# Altium integrated library Analog Devices Switches and Multiplexers Analog Switches.IntLib: 575 symbols (part 19 of 23)
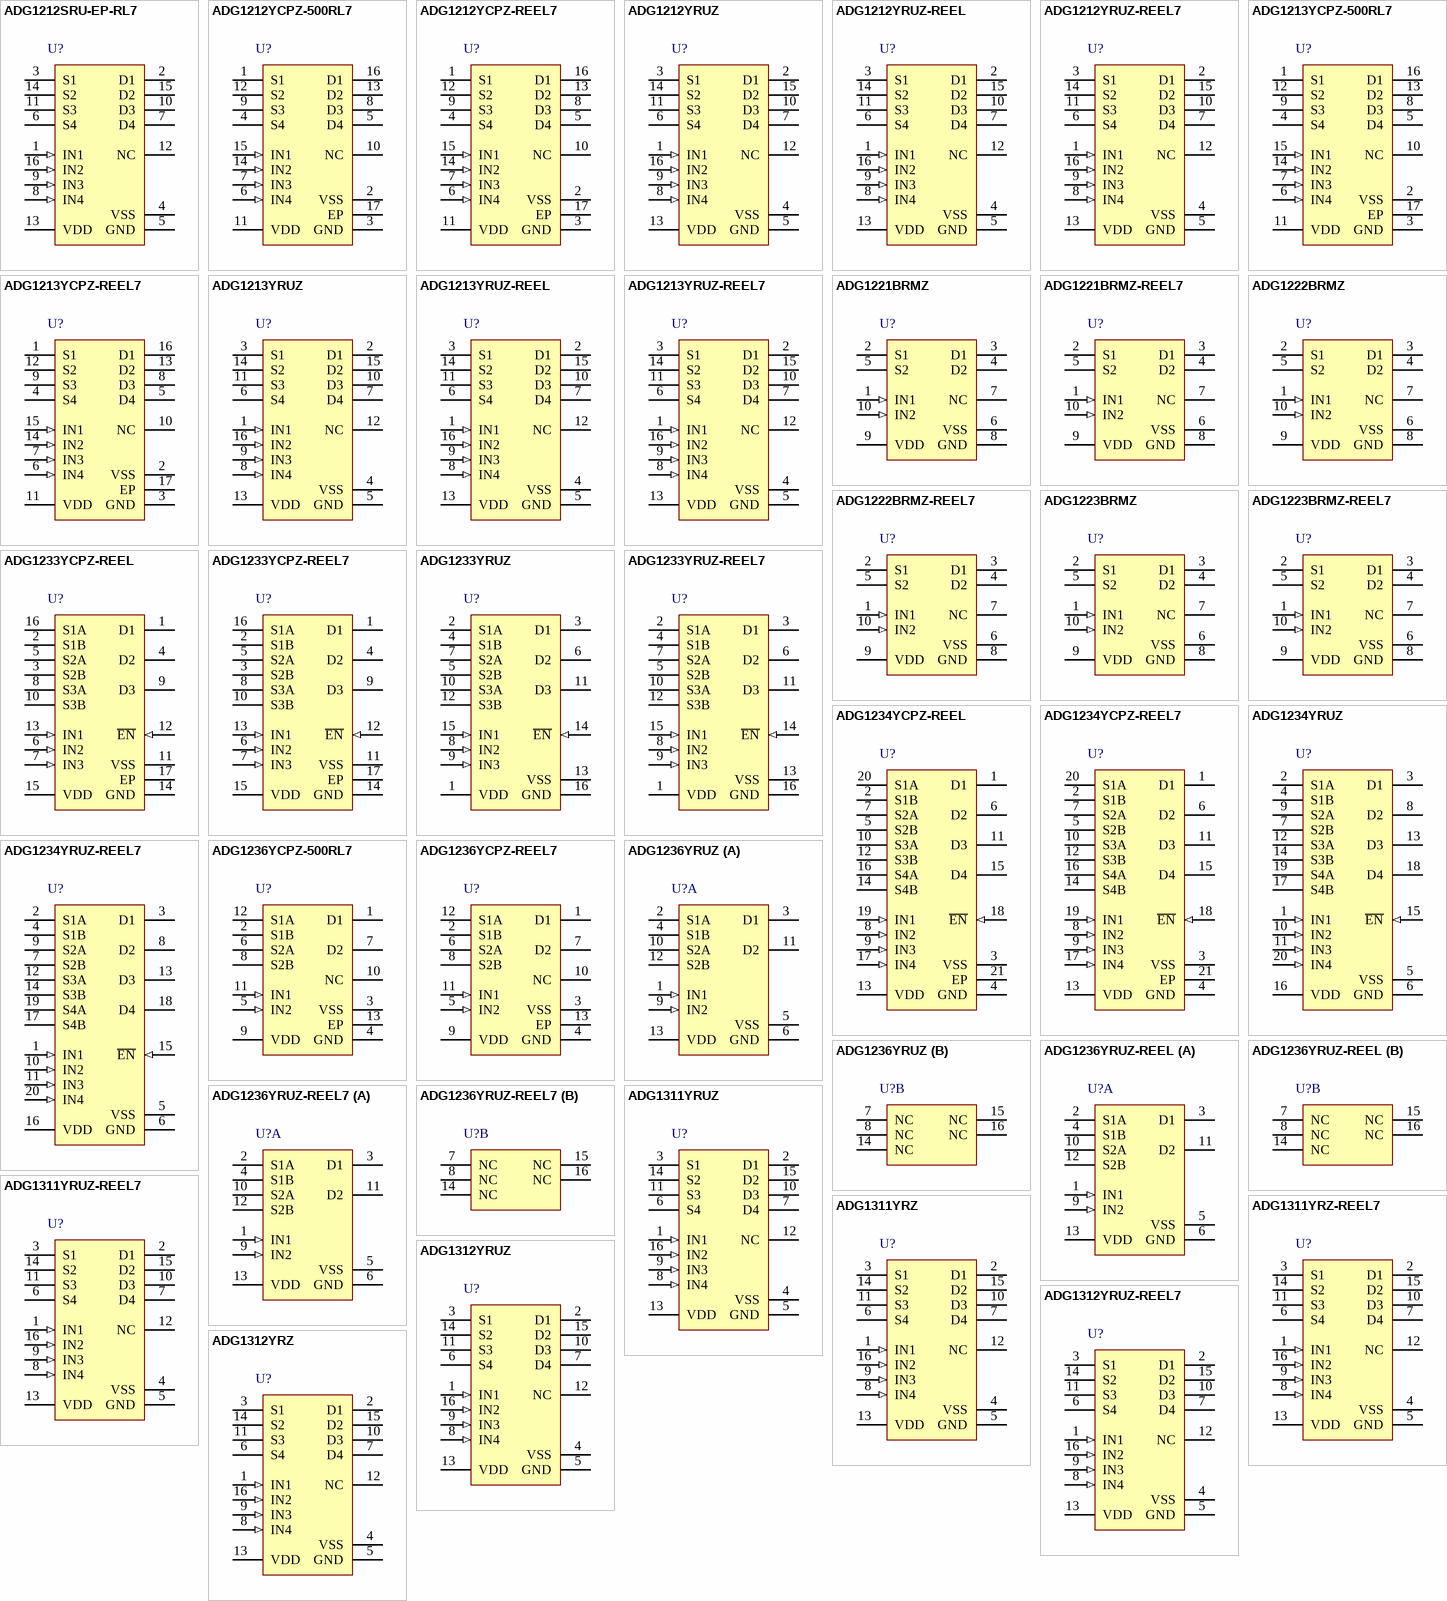
[diagram p33: symbols ADG1212SRU-EP-RL7 to ADG1312YRZ]

## ADG1222BRMZ
designator U?
Low Capacitance, Low Charge Injection, +/-15 V / +12 V iCMOS(R) Dual SPST Switches, 120 Ohm Ron, 10-pin SOP (RM-10), Tube; Manufacturer: Analog Devices; PartNumber: ADG1222BRMZ; # Sw Functions: 2; DatasheetVersion: Rev. A; PackageVersion: Aug-05; PackageReference: RM-10; PackageDescription: 10-Pin Mini Small Outline Package, Body 3 x 3 mm, Pitch 0.5 mm; Supplier 1: Digi-Key; Supplier Part Number 1: ADG1222BRMZ-ND; Supplier 2: Farnell; Supplier Part Number 2: 1390955; Supplier 3: Newark; Supplier Part Number 3: 34M4783; Supplier 4: Mouser; Supplier Part Number 4: 584-ADG1222BRMZ; Configuration: SPST; Packing: Tube; Mounting Technology: Surface Mount; Code_JEDEC: MO-187-BA; ComponentLink1Description: Manufacturer URL; ComponentLink1URL: http://www.analog.com/en/index.html; ComponentLink2Description: Datasheet; ComponentLink2URL: http://www.analog.com/static/imported-files/data_sheets/ADG1221_1222_1223.pdf; ComponentLink3Description: Package Specification; ComponentLink3URL: http://www.analog.com/static/imported-files/packages/PKG_PDF/MSOP%28RM%29/RM_10.pdf
footprint ADI-RM-10_N (SOP, 10-Leads, Body 3x3mm, Pitch 0.5mm, IPC Medium Density)
footprint ADI-RM-10_L (SOP, 10-Leads, Body 3x3mm, Pitch 0.5mm, IPC High Density)
footprint ADI-RM-10_M (SOP, 10-Leads, Body 3x3mm, Pitch 0.5mm, IPC Low Density)
pins: 1 IN1 (in) "Logic Control Input.", 2 S1 "Source Terminal. Can be an input or output.", 3 D1 "Drain Terminal. Can be an input or output.", 4 D2 "Drain Terminal. Can be an input or output.", 5 S2 "Source Terminal. Can be an input or output.", 6 VSS (power) "Most Negative Power Supply Potential.", 7 NC "No Connect.", 8 GND (power) "Ground (0 V) Reference.", 9 VDD (power) "Most Positive Power Supply Potential.", 10 IN2 (in) "Logic Control Input."

## ADG1222BRMZ-REEL7
designator U?
Low Capacitance, Low Charge Injection, +/-15 V / +12 V iCMOS(R) Dual SPST Switches, 120 Ohm Ron, 10-pin SOP (RM-10), Reel; Manufacturer: Analog Devices; PartNumber: ADG1222BRMZ-REEL7; # Sw Functions: 2; DatasheetVersion: Rev. A; PackageVersion: Aug-05; PackageReference: RM-10; PackageDescription: 10-Pin Mini Small Outline Package, Body 3 x 3 mm, Pitch 0.5 mm; Supplier 1: Digi-Key; Supplier Part Number 1: ADG1222BRMZ-REEL7-ND; Supplier 2: Mouser; Supplier Part Number 2: 584-ADG1222BRMZ-R7; Configuration: SPST; Packing: Reel; Mounting Technology: Surface Mount; Code_JEDEC: MO-187-BA; ComponentLink1Description: Manufacturer URL; ComponentLink1URL: http://www.analog.com/en/index.html; ComponentLink2Description: Datasheet; ComponentLink2URL: http://www.analog.com/static/imported-files/data_sheets/ADG1221_1222_1223.pdf; ComponentLink3Description: Package Specification; ComponentLink3URL: http://www.analog.com/static/imported-files/packages/PKG_PDF/MSOP%28RM%29/RM_10.pdf
footprint ADI-RM-10_N (SOP, 10-Leads, Body 3x3mm, Pitch 0.5mm, IPC Medium Density)
footprint ADI-RM-10_L (SOP, 10-Leads, Body 3x3mm, Pitch 0.5mm, IPC High Density)
footprint ADI-RM-10_M (SOP, 10-Leads, Body 3x3mm, Pitch 0.5mm, IPC Low Density)
pins: 1 IN1 (in) "Logic Control Input.", 2 S1 "Source Terminal. Can be an input or output.", 3 D1 "Drain Terminal. Can be an input or output.", 4 D2 "Drain Terminal. Can be an input or output.", 5 S2 "Source Terminal. Can be an input or output.", 6 VSS (power) "Most Negative Power Supply Potential.", 7 NC "No Connect.", 8 GND (power) "Ground (0 V) Reference.", 9 VDD (power) "Most Positive Power Supply Potential.", 10 IN2 (in) "Logic Control Input."

## ADG1223BRMZ
designator U?
Low Capacitance, Low Charge Injection, +/-15 V / +12 V iCMOS(R) Dual SPST Switches, 120 Ohm Ron, 10-pin SOP (RM-10), Tube; Manufacturer: Analog Devices; PartNumber: ADG1223BRMZ; # Sw Functions: 2; DatasheetVersion: Rev. A; PackageVersion: Aug-05; PackageReference: RM-10; PackageDescription: 10-Pin Mini Small Outline Package, Body 3 x 3 mm, Pitch 0.5 mm; Supplier 1: Digi-Key; Supplier Part Number 1: ADG1223BRMZ-ND; Supplier 2: Farnell; Supplier Part Number 2: 1390956; Supplier 3: Newark; Supplier Part Number 3: 34M4785; Supplier 4: Mouser; Supplier Part Number 4: 584-ADG1223BRMZ; Configuration: SPST; Packing: Tube; Mounting Technology: Surface Mount; Code_JEDEC: MO-187-BA; ComponentLink1Description: Manufacturer URL; ComponentLink1URL: http://www.analog.com/en/index.html; ComponentLink2Description: Datasheet; ComponentLink2URL: http://www.analog.com/static/imported-files/data_sheets/ADG1221_1222_1223.pdf; ComponentLink3Description: Package Specification; ComponentLink3URL: http://www.analog.com/static/imported-files/packages/PKG_PDF/MSOP%28RM%29/RM_10.pdf
footprint ADI-RM-10_N (SOP, 10-Leads, Body 3x3mm, Pitch 0.5mm, IPC Medium Density)
footprint ADI-RM-10_L (SOP, 10-Leads, Body 3x3mm, Pitch 0.5mm, IPC High Density)
footprint ADI-RM-10_M (SOP, 10-Leads, Body 3x3mm, Pitch 0.5mm, IPC Low Density)
pins: 1 IN1 (in) "Logic Control Input.", 2 S1 "Source Terminal. Can be an input or output.", 3 D1 "Drain Terminal. Can be an input or output.", 4 D2 "Drain Terminal. Can be an input or output.", 5 S2 "Source Terminal. Can be an input or output.", 6 VSS (power) "Most Negative Power Supply Potential.", 7 NC "No Connect.", 8 GND (power) "Ground (0 V) Reference.", 9 VDD (power) "Most Positive Power Supply Potential.", 10 IN2 (in) "Logic Control Input."

## ADG1223BRMZ-REEL7
designator U?
Low Capacitance, Low Charge Injection, +/-15 V / +12 V iCMOS(R) Dual SPST Switches, 120 Ohm Ron, 10-pin SOP (RM-10), Reel; Manufacturer: Analog Devices; PartNumber: ADG1223BRMZ-REEL7; # Sw Functions: 2; DatasheetVersion: Rev. A; PackageVersion: Aug-05; PackageReference: RM-10; PackageDescription: 10-Pin Mini Small Outline Package, Body 3 x 3 mm, Pitch 0.5 mm; Supplier 1: Digi-Key; Supplier Part Number 1: ADG1223BRMZ-REEL7-ND; Supplier 2: Mouser; Supplier Part Number 2: 584-ADG1223BRMZ-R7; Configuration: SPST; Packing: Reel; Mounting Technology: Surface Mount; Code_JEDEC: MO-187-BA; ComponentLink1Description: Manufacturer URL; ComponentLink1URL: http://www.analog.com/en/index.html; ComponentLink2Description: Datasheet; ComponentLink2URL: http://www.analog.com/static/imported-files/data_sheets/ADG1221_1222_1223.pdf; ComponentLink3Description: Package Specification; ComponentLink3URL: http://www.analog.com/static/imported-files/packages/PKG_PDF/MSOP%28RM%29/RM_10.pdf
footprint ADI-RM-10_N (SOP, 10-Leads, Body 3x3mm, Pitch 0.5mm, IPC Medium Density)
footprint ADI-RM-10_L (SOP, 10-Leads, Body 3x3mm, Pitch 0.5mm, IPC High Density)
footprint ADI-RM-10_M (SOP, 10-Leads, Body 3x3mm, Pitch 0.5mm, IPC Low Density)
pins: 1 IN1 (in) "Logic Control Input.", 2 S1 "Source Terminal. Can be an input or output.", 3 D1 "Drain Terminal. Can be an input or output.", 4 D2 "Drain Terminal. Can be an input or output.", 5 S2 "Source Terminal. Can be an input or output.", 6 VSS (power) "Most Negative Power Supply Potential.", 7 NC "No Connect.", 8 GND (power) "Ground (0 V) Reference.", 9 VDD (power) "Most Positive Power Supply Potential.", 10 IN2 (in) "Logic Control Input."

## ADG1233YCPZ-REEL
designator U?
Low Capacitance, Triple SPDT +/-15 V / 12 V iCMOS(TM) Switches, 120 Ohm Ron, 16-pin CSP (CP-16-4), Reel; Manufacturer: Analog Devices; PartNumber: ADG1233YCPZ-REEL; # Sw Functions: 3; Max Neg Supply: -16.5V; Max Pos Supply: +16.5V; Ron (ohms): 120, 300; t ON: 120ns, 150ns; DatasheetVersion: Rev. B; PackageVersion: 010606-0, 01/2006; PackageReference: CP-16-4; PackageDescription: 16-Pin Lead Frame Chip Scale Package, Body 4 x 4 mm, Pitch 0.65 mm; Supplier 1: Digi-Key; Supplier Part Number 1: ADG1233YCPZ-REEL-ND; Supplier 2: Mouser; Supplier Part Number 2: 584-ADG1233YCPZ-R; Configuration: SPDT; Packing: Reel; Mounting Technology: Surface Mount; Code_JEDEC: MO-220-VGGC; ComponentLink1Description: Manufacturer URL; ComponentLink1URL: http://www.analog.com/en/index.html; ComponentLink2Description: Datasheet; ComponentLink2URL: http://www.analog.com/static/imported-files/data_sheets/ADG1233_1234.pdf; ComponentLink3Description: Package Specification; ComponentLink3URL: http://www.analog.com/static/imported-files/packages/46009454504174339653421710019CP_16_4.pdf
footprint CP-16-4_N (QFN, 16-Leads, Body 4x4mm, Pitch 0.65mm, Thermal Pad 2.1x2.1mm, IPC Medium Density)
footprint CP-16-4_L (QFN, 16-Leads, Body 4x4mm, Pitch 0.65mm, Thermal Pad 2.1x2.1mm, IPC High Density)
footprint CP-16-4_M (QFN, 16-Leads, Body 4x4mm, Pitch 0.65mm, Thermal Pad 2.1x2.1mm, IPC Low Density)
pins: 1 D1, 2 S1B, 3 S2B, 4 D2, 5 S2A, 6 IN2 (in), 7 IN3 (in), 8 S3A, 9 D3, 10 S3B, 11 VSS (power), 12 ~{EN} (in), 13 IN1 (in), 14 GND (power), 15 VDD (power), 16 S1A, 17 EP (power)

## ADG1233YCPZ-REEL7
designator U?
Low Capacitance, Triple SPDT +/-15 V / 12 V iCMOS(TM) Switches, 120 Ohm Ron, 16-pin CSP (CP-16-4), Reel; Manufacturer: Analog Devices; PartNumber: ADG1233YCPZ-REEL7; # Sw Functions: 3; Max Neg Supply: -16.5V; Max Pos Supply: +16.5V; Ron (ohms): 120, 300; t ON: 120ns, 150ns; DatasheetVersion: Rev. B; PackageVersion: 010606-0, 01/2006; PackageReference: CP-16-4; PackageDescription: 16-Pin Lead Frame Chip Scale Package, Body 4 x 4 mm, Pitch 0.65 mm; Supplier 1: Digi-Key; Supplier Part Number 1: ADG1233YCPZ-REEL7TR-ND; Supplier 2: Digi-Key; Supplier Part Number 2: ADG1233YCPZ-REEL7CT-ND; Supplier 3: Digi-Key; Supplier Part Number 3: ADG1233YCPZ-REEL7DKR-ND; Supplier 4: Mouser; Supplier Part Number 4: 584-ADG1233YCPZ-R7; Configuration: SPDT; Packing: Reel; Mounting Technology: Surface Mount; Code_JEDEC: MO-220-VGGC; ComponentLink1Description: Manufacturer URL; ComponentLink1URL: http://www.analog.com/en/index.html; ComponentLink2Description: Datasheet; ComponentLink2URL: http://www.analog.com/static/imported-files/data_sheets/ADG1233_1234.pdf; ComponentLink3Description: Package Specification; ComponentLink3URL: http://www.analog.com/static/imported-files/packages/46009454504174339653421710019CP_16_4.pdf
footprint CP-16-4_N (QFN, 16-Leads, Body 4x4mm, Pitch 0.65mm, Thermal Pad 2.1x2.1mm, IPC Medium Density)
footprint CP-16-4_L (QFN, 16-Leads, Body 4x4mm, Pitch 0.65mm, Thermal Pad 2.1x2.1mm, IPC High Density)
footprint CP-16-4_M (QFN, 16-Leads, Body 4x4mm, Pitch 0.65mm, Thermal Pad 2.1x2.1mm, IPC Low Density)
pins: 1 D1, 2 S1B, 3 S2B, 4 D2, 5 S2A, 6 IN2 (in), 7 IN3 (in), 8 S3A, 9 D3, 10 S3B, 11 VSS (power), 12 ~{EN} (in), 13 IN1 (in), 14 GND (power), 15 VDD (power), 16 S1A, 17 EP (power)

## ADG1233YRUZ
designator U?
Low Capacitance, Triple SPDT +/-15 V / 12 V iCMOS(TM) Switches, 120 Ohm Ron, 16-pin SOP (RU-16), Tube; Manufacturer: Analog Devices; PartNumber: ADG1233YRUZ; # Sw Functions: 3; Max Neg Supply: -16.5V; Max Pos Supply: +16.5V; Ron (ohms): 120, 300; t ON: 120ns, 150ns; DatasheetVersion: Rev. B; PackageVersion: Nov-02; PackageReference: RU-16; PackageDescription: 16-Pin Thin Shrink Small Outline Package, Body 5 x 4.4 mm, Pitch 0.65 mm; Supplier 1: Digi-Key; Supplier Part Number 1: ADG1233YRUZ-ND; Supplier 2: Farnell; Supplier Part Number 2: 1274182; Supplier 3: Newark; Supplier Part Number 3: 19M0660; Supplier 4: Mouser; Supplier Part Number 4: 584-ADG1233YRUZ; Configuration: SPDT; Packing: Tube; Mounting Technology: Surface Mount; Code_JEDEC: MO-153AB; ComponentLink1Description: Manufacturer URL; ComponentLink1URL: http://www.analog.com/en/index.html; ComponentLink2Description: Datasheet; ComponentLink2URL: http://www.analog.com/static/imported-files/data_sheets/ADG1233_1234.pdf; ComponentLink3Description: Package Specification; ComponentLink3URL: http:/www.analog.com/static/imported-files/packages/36244347913743854010197452789RU16.pdf
footprint ADI-RU-16_N (SOP, 16-Leads, Body 5x4.4mm, Pitch 0.65mm, IPC Medium Density)
footprint ADI-RU-16_L (SOP, 16-Leads, Body 5x4.4mm, Pitch 0.65mm, IPC High Density)
footprint ADI-RU-16_M (SOP, 16-Leads, Body 5x4.4mm, Pitch 0.65mm, IPC Low Density)
pins: 1 VDD (power), 2 S1A, 3 D1, 4 S1B, 5 S2B, 6 D2, 7 S2A, 8 IN2 (in), 9 IN3 (in), 10 S3A, 11 D3, 12 S3B, 13 VSS (power), 14 ~{EN} (in), 15 IN1 (in), 16 GND (power)

## ADG1233YRUZ-REEL7
designator U?
Low Capacitance, Triple SPDT +/-15 V / 12 V iCMOS(TM) Switches, 120 Ohm Ron, 16-pin SOP (RU-16), Reel; Manufacturer: Analog Devices; PartNumber: ADG1233YRUZ-REEL7; # Sw Functions: 3; Max Neg Supply: -16.5V; Max Pos Supply: +16.5V; Ron (ohms): 120, 300; t ON: 120ns, 150ns; DatasheetVersion: Rev. B; PackageVersion: Nov-02; PackageReference: RU-16; PackageDescription: 16-Pin Thin Shrink Small Outline Package, Body 5 x 4.4 mm, Pitch 0.65 mm; Supplier 1: Digi-Key; Supplier Part Number 1: ADG1233YRUZ-REEL7-ND; Supplier 2: Mouser; Supplier Part Number 2: 584-ADG1233YRUZ-R7; Configuration: SPDT; Packing: Reel; Mounting Technology: Surface Mount; Code_JEDEC: MO-153AB; ComponentLink1Description: Manufacturer URL; ComponentLink1URL: http://www.analog.com/en/index.html; ComponentLink2Description: Datasheet; ComponentLink2URL: http://www.analog.com/static/imported-files/data_sheets/ADG1233_1234.pdf; ComponentLink3Description: Package Specification; ComponentLink3URL: http:/www.analog.com/static/imported-files/packages/36244347913743854010197452789RU16.pdf
footprint ADI-RU-16_N (SOP, 16-Leads, Body 5x4.4mm, Pitch 0.65mm, IPC Medium Density)
footprint ADI-RU-16_L (SOP, 16-Leads, Body 5x4.4mm, Pitch 0.65mm, IPC High Density)
footprint ADI-RU-16_M (SOP, 16-Leads, Body 5x4.4mm, Pitch 0.65mm, IPC Low Density)
pins: 1 VDD (power), 2 S1A, 3 D1, 4 S1B, 5 S2B, 6 D2, 7 S2A, 8 IN2 (in), 9 IN3 (in), 10 S3A, 11 D3, 12 S3B, 13 VSS (power), 14 ~{EN} (in), 15 IN1 (in), 16 GND (power)

## ADG1234YCPZ-REEL
designator U?
Low Capacitance, Quad SPDT +/-15 V / 12 V ICMOS(TM) Switches, 120 Ohm Ron, 20-pin QFN (CP-20-1), Reel; Manufacturer: Analog Devices; PartNumber: ADG1234YCPZ-REEL; # Sw Functions: 4; Max Neg Supply: -16.5V; Max Pos Supply: +16.5V; Ron (ohms): 120, 300; t ON: 120ns, 150ns; DatasheetVersion: Rev. B; PackageVersion: 012508-B, 01/2008; PackageReference: CP-20-1; PackageDescription: 20-Pin Lead Frame Chip Scale Package, Body 4 x 4 mm, Pitch 0.5 mm; Supplier 1: Digi-Key; Supplier Part Number 1: ADG1234YCPZ-REEL-ND; Supplier 2: Newark; Supplier Part Number 2: 12M7739; Supplier 3: Mouser; Supplier Part Number 3: 584-ADG1234YCPZ-R; Configuration: SPDT; Packing: Reel; Mounting Technology: Surface Mount; Code_JEDEC: MO-220-VGGD-1; ComponentLink1Description: Manufacturer URL; ComponentLink1URL: http://www.analog.com/en/index.html; ComponentLink2Description: Datasheet; ComponentLink2URL: http://www.analog.com/static/imported-files/data_sheets/ADG1233_1234.pdf; ComponentLink3Description: Package Specification; ComponentLink3URL: http://www.analog.com/static/imported-files/packages/PKG_PDF/LFCSP(CP)/CP_20_1.pdf
footprint ADI-CP-20-1_N (QFN, 20-Leads, Body 4x4mm, Pitch 0.5mm, Thermal Pad 2.1x2.1mm, IPC Medium Density)
footprint ADI-CP-20-1_L (QFN, 20-Leads, Body 4x4mm, Pitch 0.5mm, Thermal Pad 2.1x2.1mm, IPC High Density)
footprint ADI-CP-20-1_M (QFN, 20-Leads, Body 4x4mm, Pitch 0.5mm, Thermal Pad 2.1x2.1mm, IPC Low Density)
pins: 1 D1, 2 S1B, 3 VSS (power) "Most negative power supply potential in dual supplies. In  single-supply applications, it can be connected to ground.", 4 GND (power) "Ground (0 V) reference.", 5 S2B, 6 D2, 7 S2A, 8 IN2 (in), 9 IN3 (in), 10 S3A, 11 D3, 12 S3B, 13 VDD (power) "Most positive supply potential.", 14 S4B, 15 D4, 16 S4A, 17 IN4 (in), 18 ~{EN} (in), 19 IN1 (in), 20 S1A, 21 EP (power) "Exposed Pad Tied to Substrate, VSS"

## ADG1234YCPZ-REEL7
designator U?
Low Capacitance, Quad SPDT +/-15 V / 12 V iCMOS(TM) Switches, 120 Ohm Ron, 20-pin SOP (CP-20-1), Reel; Manufacturer: Analog Devices; PartNumber: ADG1234YCPZ-REEL7; # Sw Functions: 4; Max Neg Supply: -16.5V; Max Pos Supply: +16.5V; Ron (ohms): 120, 300; t ON: 120ns, 150ns; DatasheetVersion: Rev. B; PackageVersion: 012508-B, 01/2008; PackageReference: CP-20-1; PackageDescription: 20-Pin Lead Frame Chip Scale Package, Body 4 x 4 mm, Pitch 0.5 mm; Supplier 1: Digi-Key; Supplier Part Number 1: ADG1234YCPZ-REEL7TR-ND; Supplier 2: Digi-Key; Supplier Part Number 2: ADG1234YCPZ-REEL7CT-ND; Supplier 3: Digi-Key; Supplier Part Number 3: ADG1234YCPZ-REEL7DKR-ND; Supplier 4: Newark; Supplier Part Number 4: 12M7740; Supplier 5: Mouser; Supplier Part Number 5: 584-ADG1234YCPZ-R7; Configuration: SPDT; Packing: Reel; Mounting Technology: Surface Mount; Code_JEDEC: MO-220-VGGD-1; ComponentLink1Description: Manufacturer URL; ComponentLink1URL: http://www.analog.com/en/index.html; ComponentLink2Description: Datasheet; ComponentLink2URL: http://www.analog.com/static/imported-files/data_sheets/ADG1233_1234.pdf; ComponentLink3Description: Package Specification; ComponentLink3URL: http://www.analog.com/static/imported-files/packages/PKG_PDF/LFCSP(CP)/CP_20_1.pdf
footprint ADI-CP-20-1_N (QFN, 20-Leads, Body 4x4mm, Pitch 0.5mm, Thermal Pad 2.1x2.1mm, IPC Medium Density)
footprint ADI-CP-20-1_L (QFN, 20-Leads, Body 4x4mm, Pitch 0.5mm, Thermal Pad 2.1x2.1mm, IPC High Density)
footprint ADI-CP-20-1_M (QFN, 20-Leads, Body 4x4mm, Pitch 0.5mm, Thermal Pad 2.1x2.1mm, IPC Low Density)
pins: 1 D1, 2 S1B, 3 VSS (power) "Most negative power supply potential in dual supplies. In  single-supply applications, it can be connected to ground.", 4 GND (power) "Ground (0 V) reference.", 5 S2B, 6 D2, 7 S2A, 8 IN2 (in), 9 IN3 (in), 10 S3A, 11 D3, 12 S3B, 13 VDD (power) "Most positive supply potential.", 14 S4B, 15 D4, 16 S4A, 17 IN4 (in), 18 ~{EN} (in), 19 IN1 (in), 20 S1A, 21 EP (power) "Exposed Pad Tied to Substrate, VSS"

## ADG1234YRUZ
designator U?
Low Capacitance, Quad SPDT +/-15 V / 12 V ICMOS(TM) Switches, 120 Ohm Ron, 20-pin SOP (RU-20), Reel; Manufacturer: Analog Devices; PartNumber: ADG1234YRUZ; # Sw Functions: 4; Max Neg Supply: -16.5V; Max Pos Supply: +16.5V; Packing: Tube; Ron (ohms): 120, 300; t ON: 120ns, 150ns; DatasheetVersion: Rev. B; PackageVersion: Jan-03; PackageReference: RU-20; PackageDescription: 20-Pin Thin Shrink Small Outline Package, Body 6.5 x 4.4 mm, Pitch 0.65 mm; Supplier 1: Digi-Key; Supplier Part Number 1: ADG1234YRUZ-ND; Supplier 2: Farnell; Supplier Part Number 2: 1274180; Supplier 3: Newark; Supplier Part Number 3: 31M3763; Supplier 4: Newark; Supplier Part Number 4: 19M0661; Supplier 5: Mouser; Supplier Part Number 5: 584-ADG1234YRUZ; Configuration: SPDT; Mounting Technology: Surface Mount; Code_JEDEC: MO-153AC; ComponentLink1Description: Manufacturer URL; ComponentLink1URL: http://www.analog.com/en/index.html; ComponentLink2Description: Datasheet; ComponentLink2URL: http://www.analog.com/static/imported-files/data_sheets/ADG1233_1234.pdf; ComponentLink3Description: Package Specification; ComponentLink3URL: http://www.analog.com/static/imported-files/packages/364515793657813558433715854054607941441RU20.pdf
footprint ADI-RU-20_N (SOP, 20-Leads, Body 6.5x4.4mm, Pitch 0.65mm, IPC Medium Density)
footprint ADI-RU-20_L (SOP, 20-Leads, Body 6.5x4.4mm, Pitch 0.65mm, IPC High Density)
footprint ADI-RU-20_M (SOP, 20-Leads, Body 6.5x4.4mm, Pitch 0.65mm, IPC Low Density)
pins: 1 IN1 (in), 2 S1A, 3 D1, 4 S1B, 5 VSS (power), 6 GND (power), 7 S2B, 8 D2, 9 S2A, 10 IN2 (in), 11 IN3 (in), 12 S3A, 13 D3, 14 S3B, 15 ~{EN} (in), 16 VDD (power), 17 S4B, 18 D4, 19 S4A, 20 IN4 (in)

## ADG1234YRUZ-REEL7
designator U?
Low Capacitance, Quad SPDT +/-15 V / 12 V ICMOS(TM) Switches, 120 Ohm Ron, 20-pin SOP (RU-20), Reel; Manufacturer: Analog Devices; PartNumber: ADG1234YRUZ-REEL7; # Sw Functions: 4; Max Neg Supply: -16.5V; Max Pos Supply: +16.5V; Ron (ohms): 120, 300; t ON: 120ns, 150ns; DatasheetVersion: Rev. B; PackageVersion: Jan-03; PackageReference: RU-20; PackageDescription: 20-Pin Thin Shrink Small Outline Package, Body 6.5 x 4.4 mm, Pitch 0.65 mm; Supplier 1: Digi-Key; Supplier Part Number 1: ADG1234YRUZ-REEL7-ND; Supplier 2: Mouser; Supplier Part Number 2: 584-ADG1234YRUZ-R7; Configuration: SPDT; Packing: Reel; Mounting Technology: Surface Mount; Code_JEDEC: MO-153AC; ComponentLink1Description: Manufacturer URL; ComponentLink1URL: http://www.analog.com/en/index.html; ComponentLink2Description: Datasheet; ComponentLink2URL: http://www.analog.com/static/imported-files/data_sheets/ADG1233_1234.pdf; ComponentLink3Description: Package Specification; ComponentLink3URL: http://www.analog.com/static/imported-files/packages/364515793657813558433715854054607941441RU20.pdf
footprint ADI-RU-20_N (SOP, 20-Leads, Body 6.5x4.4mm, Pitch 0.65mm, IPC Medium Density)
footprint ADI-RU-20_L (SOP, 20-Leads, Body 6.5x4.4mm, Pitch 0.65mm, IPC High Density)
footprint ADI-RU-20_M (SOP, 20-Leads, Body 6.5x4.4mm, Pitch 0.65mm, IPC Low Density)
pins: 1 IN1 (in), 2 S1A, 3 D1, 4 S1B, 5 VSS (power), 6 GND (power), 7 S2B, 8 D2, 9 S2A, 10 IN2 (in), 11 IN3 (in), 12 S3A, 13 D3, 14 S3B, 15 ~{EN} (in), 16 VDD (power), 17 S4B, 18 D4, 19 S4A, 20 IN4 (in)

## ADG1236YCPZ-500RL7
designator U?
Low Capacitance, Low Charge Injection, +/-15 V / 12 V iCMOS(TM), Dual SPDT Switches, 120 Ohm Ron, 12-pin QFN (CP-12-1), Reel; Manufacturer: Analog Devices; PartNumber: ADG1236YCPZ-500RL7; # Sw Functions: 2; Max Neg Supply: -16.5V; Max Pos Supply: +16.5V; Ron (ohms): 120, 300; DatasheetVersion: Rev. 0; PackageReference: CP-12-1; PackageDescription: 12-Pin Lead Frame Chip Scale Package, Body 3 x 3 mm, Pitch 0.5 mm; Supplier 1: Digi-Key; Supplier Part Number 1: ADG1236YCPZ-500RL7TR-ND; Supplier 2: Digi-Key; Supplier Part Number 2: ADG1236YCPZ-500RL7CT-ND; Supplier 3: Digi-Key; Supplier Part Number 3: ADG1236YCPZ-500RL7DKR-ND; Supplier 4: Newark; Supplier Part Number 4: 12M7744; Supplier 5: Mouser; Supplier Part Number 5: 584-ADG1236YCPZ500R7; Configuration: SPDT; Packing: Reel; Mounting Technology: Surface Mount; Code_JEDEC: MO-220-VEED-1; ComponentLink1Description: Manufacturer URL; ComponentLink1URL: http://www.analog.com/en/index.html; ComponentLink2Description: Datasheet; ComponentLink2URL: http://www.analog.com/static/imported-files/data_sheets/ADG1236.pdf; ComponentLink3Description: Package Specification; ComponentLink3URL: http://www.analog.com/static/imported-files/packages/CP_12_1.pdf
footprint ADI-CP-12-1_N (QFN, 12-Leads, Body 3x3mm, Pitch 0.5mm, Thermal Pad 1.3x1.3mm, IPC Medium Density)
footprint ADI-CP-12-1_L (QFN, 12-Leads, Body 3x3mm, Pitch 0.5mm, Thermal Pad 1.3x1.3mm, IPC High Density)
footprint ADI-CP-12-1_M (QFN, 12-Leads, Body 3x3mm, Pitch 0.5mm, Thermal Pad 1.3x1.3mm, IPC Low Density)
pins: 1 D1 "Drain Terminal. Can be an input or output.", 2 S1B "Source Terminal. Can be an input or output.", 3 VSS (power) "Most Negative Power Supply Potential.", 4 GND (power) "Ground (0 V) Reference.", 5 IN2 (in) "Logic Control Input", 6 S2A "Source Terminal. Can be an input or output.", 7 D2 "Drain Terminal. Can be an input or output.", 8 S2B "Source Terminal. Can be an input or output.", 9 VDD (power) "Most Positive Power Supply Potential.", 10 NC "No Connect.", 11 IN1 (in) "Logic Control Input", 12 S1A "Source Terminal. Can be an input or output.", 13 EP (power) "EXPOSED PAD TIED TO SUBSTRATE, VSS."

## ADG1236YCPZ-REEL7
designator U?
Low Capacitance, Low Charge Injection, +/-15 V / 12 V iCMOS(TM), Dual SPDT Switches, 120 Ohm Ron, 12-pin QFN (CP-12-1), Reel; Manufacturer: Analog Devices; PartNumber: ADG1236YCPZ-REEL7; # Sw Functions: 2; Max Neg Supply: -16.5V; Max Pos Supply: +16.5V; Ron (ohms): 120, 300; DatasheetVersion: Rev. 0; PackageReference: CP-12-1; PackageDescription: 12-Pin Lead Frame Chip Scale Package, Body 3 x 3 mm, Pitch 0.5 mm; Supplier 1: Digi-Key; Supplier Part Number 1: ADG1236YCPZ-REEL7TR-ND; Supplier 2: Digi-Key; Supplier Part Number 2: ADG1236YCPZ-REEL7CT-ND; Supplier 3: Digi-Key; Supplier Part Number 3: ADG1236YCPZ-REEL7DKR-ND; Supplier 4: Newark; Supplier Part Number 4: 12M7743; Supplier 5: Mouser; Supplier Part Number 5: 584-ADG1236YCPZ-R7; Configuration: SPDT; Packing: Reel; Mounting Technology: Surface Mount; Code_JEDEC: MO-220-VEED-1; ComponentLink1Description: Manufacturer URL; ComponentLink1URL: http://www.analog.com/en/index.html; ComponentLink2Description: Datasheet; ComponentLink2URL: http://www.analog.com/static/imported-files/data_sheets/ADG1236.pdf; ComponentLink3Description: Package Specification; ComponentLink3URL: http://www.analog.com/static/imported-files/packages/CP_12_1.pdf
footprint ADI-CP-12-1_N (QFN, 12-Leads, Body 3x3mm, Pitch 0.5mm, Thermal Pad 1.3x1.3mm, IPC Medium Density)
footprint ADI-CP-12-1_L (QFN, 12-Leads, Body 3x3mm, Pitch 0.5mm, Thermal Pad 1.3x1.3mm, IPC High Density)
footprint ADI-CP-12-1_M (QFN, 12-Leads, Body 3x3mm, Pitch 0.5mm, Thermal Pad 1.3x1.3mm, IPC Low Density)
pins: 1 D1 "Drain Terminal. Can be an input or output.", 2 S1B "Source Terminal. Can be an input or output.", 3 VSS (power) "Most Negative Power Supply Potential.", 4 GND (power) "Ground (0 V) Reference.", 5 IN2 (in) "Logic Control Input", 6 S2A "Source Terminal. Can be an input or output.", 7 D2 "Drain Terminal. Can be an input or output.", 8 S2B "Source Terminal. Can be an input or output.", 9 VDD (power) "Most Positive Power Supply Potential.", 10 NC "No Connect.", 11 IN1 (in) "Logic Control Input", 12 S1A "Source Terminal. Can be an input or output.", 13 EP (power) "EXPOSED PAD TIED TO SUBSTRATE, VSS."

## ADG1236YRUZ
designator U?
Low Capacitance, Low Charge Injection, +/-15 V / 12 V iCMOS(TM), Dual SPDT Switches, 120 Ohm Ron, 16-pin SOP (RU-16), Tube; Manufacturer: Analog Devices; PartNumber: ADG1236YRUZ; # Sw Functions: 2; Max Neg Supply: -16.5V; Max Pos Supply: +16.5V; Ron (ohms): 120, 300; DatasheetVersion: Rev. 0; PackageVersion: Nov-02; PackageReference: RU-16; PackageDescription: 16-Pin Thin Shrink Small Outline Package, Body 5 x 4.4 mm, Pitch 0.65 mm; Supplier 1: Digi-Key; Supplier Part Number 1: ADG1236YRUZ-ND; Supplier 2: Farnell; Supplier Part Number 2: 1117868; Supplier 3: Newark; Supplier Part Number 3: 19M0662; Supplier 4: Mouser; Supplier Part Number 4: 584-ADG1236YRUZ; Configuration: SPDT; Packing: Tube; Mounting Technology: Surface Mount; Code_JEDEC: MO-153AB; ComponentLink1Description: Manufacturer URL; ComponentLink1URL: http://www.analog.com/en/index.html; ComponentLink2Description: Datasheet; ComponentLink2URL: http://www.analog.com/static/imported-files/data_sheets/ADG1236.pdf; ComponentLink3Description: Package Specification; ComponentLink3URL: http:/www.analog.com/static/imported-files/packages/36244347913743854010197452789RU16.pdf
footprint ADI-RU-16_N (SOP, 16-Leads, Body 5x4.4mm, Pitch 0.65mm, IPC Medium Density)
footprint ADI-RU-16_L (SOP, 16-Leads, Body 5x4.4mm, Pitch 0.65mm, IPC High Density)
footprint ADI-RU-16_M (SOP, 16-Leads, Body 5x4.4mm, Pitch 0.65mm, IPC Low Density)
part A pins: 1 IN1 (in) "Logic Control Input.", 2 S1A "Source Terminal. Can be an input or output", 3 D1 "Drain Terminal. Can be an input or output", 4 S1B "Source Terminal. Can be an input or output", 5 VSS (power) "Most Negative Power Supply Potential.", 6 GND (power) "Ground (0 V) Reference.", 9 IN2 (in) "Logic Control Input.", 10 S2A "Source Terminal. Can be an input or output", 11 D2 "Drain Terminal. Can be an input or output", 12 S2B "Source Terminal. Can be an input or output", 13 VDD (power) "Most Positive Power Supply Potential."
part B pins: 7 NC "No Connect.", 8 NC "No Connect.", 14 NC "No Connect.", 15 NC "No Connect.", 16 NC "No Connect."

## ADG1236YRUZ-REEL
designator U?
Low Capacitance, Low Charge Injection, +/-15 V / 12 V iCMOS(TM), Dual SPDT Switches, 120 Ohm Ron, 16-pin SOP (RU-16), Reel; Manufacturer: Analog Devices; PartNumber: ADG1236YRUZ-REEL; # Sw Functions: 2; Max Neg Supply: -16.5V; Max Pos Supply: +16.5V; Ron (ohms): 120, 300; DatasheetVersion: Rev. 0; PackageVersion: Nov-02; PackageReference: RU-16; PackageDescription: 16-Pin Thin Shrink Small Outline Package, Body 5 x 4.4 mm, Pitch 0.65 mm; Supplier 1: Digi-Key; Supplier Part Number 1: ADG1236YRUZ-REEL-ND; Supplier 2: Newark; Supplier Part Number 2: 12M7745; Supplier 3: Mouser; Supplier Part Number 3: 584-ADG1236YRUZ-R; Configuration: SPDT; Packing: Reel; Mounting Technology: Surface Mount; Code_JEDEC: MO-153AB; ComponentLink1Description: Manufacturer URL; ComponentLink1URL: http://www.analog.com/en/index.html; ComponentLink2Description: Datasheet; ComponentLink2URL: http://www.analog.com/static/imported-files/data_sheets/ADG1236.pdf; ComponentLink3Description: Package Specification; ComponentLink3URL: http:/www.analog.com/static/imported-files/packages/36244347913743854010197452789RU16.pdf
footprint ADI-RU-16_N (SOP, 16-Leads, Body 5x4.4mm, Pitch 0.65mm, IPC Medium Density)
footprint ADI-RU-16_L (SOP, 16-Leads, Body 5x4.4mm, Pitch 0.65mm, IPC High Density)
footprint ADI-RU-16_M (SOP, 16-Leads, Body 5x4.4mm, Pitch 0.65mm, IPC Low Density)
part A pins: 1 IN1 (in) "Logic Control Input.", 2 S1A "Source Terminal. Can be an input or output", 3 D1 "Drain Terminal. Can be an input or output", 4 S1B "Source Terminal. Can be an input or output", 5 VSS (power) "Most Negative Power Supply Potential.", 6 GND (power) "Ground (0 V) Reference.", 9 IN2 (in) "Logic Control Input.", 10 S2A "Source Terminal. Can be an input or output", 11 D2 "Drain Terminal. Can be an input or output", 12 S2B "Source Terminal. Can be an input or output", 13 VDD (power) "Most Positive Power Supply Potential."
part B pins: 7 NC "No Connect.", 8 NC "No Connect.", 14 NC "No Connect.", 15 NC "No Connect.", 16 NC "No Connect."

## ADG1236YRUZ-REEL7
designator U?
Low Capacitance, Low Charge Injection, +/-15 V / 12 V iCMOS(TM), Dual SPDT Switches, 120 Ohm Ron, 16-pin SOP (RU-16), Reel; Manufacturer: Analog Devices; PartNumber: ADG1236YRUZ-REEL7; # Sw Functions: 2; Max Neg Supply: -16.5V; Max Pos Supply: +16.5V; Ron (ohms): 120, 300; DatasheetVersion: Rev. 0; PackageVersion: Nov-02; PackageReference: RU-16; PackageDescription: 16-Pin Thin Shrink Small Outline Package, Body 5 x 4.4 mm, Pitch 0.65 mm; Supplier 1: Digi-Key; Supplier Part Number 1: ADG1236YRUZ-REEL7-ND; Supplier 2: Mouser; Supplier Part Number 2: 584-ADG1236YRUZ-R7; Configuration: SPDT; Packing: Reel; Mounting Technology: Surface Mount; Code_JEDEC: MO-153AB; ComponentLink1Description: Manufacturer URL; ComponentLink1URL: http://www.analog.com/en/index.html; ComponentLink2Description: Datasheet; ComponentLink2URL: http://www.analog.com/static/imported-files/data_sheets/ADG1236.pdf; ComponentLink3Description: Package Specification; ComponentLink3URL: http:/www.analog.com/static/imported-files/packages/36244347913743854010197452789RU16.pdf
footprint ADI-RU-16_N (SOP, 16-Leads, Body 5x4.4mm, Pitch 0.65mm, IPC Medium Density)
footprint ADI-RU-16_L (SOP, 16-Leads, Body 5x4.4mm, Pitch 0.65mm, IPC High Density)
footprint ADI-RU-16_M (SOP, 16-Leads, Body 5x4.4mm, Pitch 0.65mm, IPC Low Density)
part A pins: 1 IN1 (in) "Logic Control Input.", 2 S1A "Source Terminal. Can be an input or output", 3 D1 "Drain Terminal. Can be an input or output", 4 S1B "Source Terminal. Can be an input or output", 5 VSS (power) "Most Negative Power Supply Potential.", 6 GND (power) "Ground (0 V) Reference.", 9 IN2 (in) "Logic Control Input.", 10 S2A "Source Terminal. Can be an input or output", 11 D2 "Drain Terminal. Can be an input or output", 12 S2B "Source Terminal. Can be an input or output", 13 VDD (power) "Most Positive Power Supply Potential."
part B pins: 7 NC "No Connect.", 8 NC "No Connect.", 14 NC "No Connect.", 15 NC "No Connect.", 16 NC "No Connect."

## ADG1311YRUZ
designator U?
Quad SPST +/-15 V / 12 V Switches, 130 Ohm Ron, 16-pin SOP (RU-16), Tube; Manufacturer: Analog Devices; PartNumber: ADG1311YRUZ; # Sw Functions: 4; Max Neg Supply: -16.5V; Max Pos Supply: +16.5V; Ron (ohms): 130, 325; t ON: 105ns, 120ns; DatasheetVersion: Rev. A; PackageVersion: Nov-02; PackageReference: RU-16; PackageDescription: 16-Pin Thin Shrink Small Outline Package, Body 5 x 4.4 mm, Pitch 0.65 mm; Supplier 1: Digi-Key; Supplier Part Number 1: ADG1311YRUZ-ND; Supplier 2: Farnell; Supplier Part Number 2: 1274177; Supplier 3: Newark; Supplier Part Number 3: 31M3767; Supplier 4: Newark; Supplier Part Number 4: 19M0665; Supplier 5: Mouser; Supplier Part Number 5: 584-ADG1311YRUZ; Configuration: SPST; Packing: Tube; Mounting Technology: Surface Mount; Code_JEDEC: MO-153AB; ComponentLink1Description: Manufacturer URL; ComponentLink1URL: http://www.analog.com/en/index.html; ComponentLink2Description: Datasheet; ComponentLink2URL: http://www.analog.com/static/imported-files/data_sheets/ADG1311_1312_1313.pdf; ComponentLink3Description: Package Specification; ComponentLink3URL: http:/www.analog.com/static/imported-files/packages/36244347913743854010197452789RU16.pdf
footprint ADI-RU-16_N (SOP, 16-Leads, Body 5x4.4mm, Pitch 0.65mm, IPC Medium Density)
footprint ADI-RU-16_L (SOP, 16-Leads, Body 5x4.4mm, Pitch 0.65mm, IPC High Density)
footprint ADI-RU-16_M (SOP, 16-Leads, Body 5x4.4mm, Pitch 0.65mm, IPC Low Density)
pins: 1 IN1 (in) "Logic Control Input.", 2 D1 "Drain Terminal. Can be an input or output.", 3 S1 "Source Terminal. Can be an input or output.", 4 VSS (power) "Most Negative Power Supply Potential.", 5 GND (power) "Ground (0 V) Reference.", 6 S4 "Source Terminal. Can be an input or output.", 7 D4 "Drain Terminal. Can be an input or output.", 8 IN4 (in) "Logic Control Input.", 9 IN3 (in) "Logic Control Input.", 10 D3 "Drain Terminal. Can be an input or output.", 11 S3 "Source Terminal. Can be an input or output.", 12 NC "No Connection.", 13 VDD (power) "Most Positive Power Supply Potential.", 14 S2 "Source Terminal. Can be an input or output.", 15 D2 "Drain Terminal. Can be an input or output.", 16 IN2 (in) "Logic Control Input."

## ADG1311YRUZ-REEL7
designator U?
Quad SPST +/-15 V / 12 V Switches, 130 Ohm Ron, 16-pin SOP (RU-16), Reel; Manufacturer: Analog Devices; PartNumber: ADG1311YRUZ-REEL7; # Sw Functions: 4; Max Neg Supply: -16.5V; Max Pos Supply: +16.5V; Ron (ohms): 130, 325; t ON: 105ns, 120ns; DatasheetVersion: Rev. A; PackageVersion: Nov-02; PackageReference: RU-16; PackageDescription: 16-Pin Thin Shrink Small Outline Package, Body 5 x 4.4 mm, Pitch 0.65 mm; Supplier 1: Digi-Key; Supplier Part Number 1: ADG1311YRUZ-REEL7-ND; Supplier 2: Mouser; Supplier Part Number 2: 584-ADG1311YRUZ-R7; Configuration: SPST; Packing: Reel; Mounting Technology: Surface Mount; Code_JEDEC: MO-153AB; ComponentLink1Description: Manufacturer URL; ComponentLink1URL: http://www.analog.com/en/index.html; ComponentLink2Description: Datasheet; ComponentLink2URL: http://www.analog.com/static/imported-files/data_sheets/ADG1311_1312_1313.pdf; ComponentLink3Description: Package Specification; ComponentLink3URL: http:/www.analog.com/static/imported-files/packages/36244347913743854010197452789RU16.pdf
footprint ADI-RU-16_N (SOP, 16-Leads, Body 5x4.4mm, Pitch 0.65mm, IPC Medium Density)
footprint ADI-RU-16_L (SOP, 16-Leads, Body 5x4.4mm, Pitch 0.65mm, IPC High Density)
footprint ADI-RU-16_M (SOP, 16-Leads, Body 5x4.4mm, Pitch 0.65mm, IPC Low Density)
pins: 1 IN1 (in) "Logic Control Input.", 2 D1 "Drain Terminal. Can be an input or output.", 3 S1 "Source Terminal. Can be an input or output.", 4 VSS (power) "Most Negative Power Supply Potential.", 5 GND (power) "Ground (0 V) Reference.", 6 S4 "Source Terminal. Can be an input or output.", 7 D4 "Drain Terminal. Can be an input or output.", 8 IN4 (in) "Logic Control Input.", 9 IN3 (in) "Logic Control Input.", 10 D3 "Drain Terminal. Can be an input or output.", 11 S3 "Source Terminal. Can be an input or output.", 12 NC "No Connection.", 13 VDD (power) "Most Positive Power Supply Potential.", 14 S2 "Source Terminal. Can be an input or output.", 15 D2 "Drain Terminal. Can be an input or output.", 16 IN2 (in) "Logic Control Input."

## ADG1311YRZ
designator U?
Quad SPST +/-15 V / 12 V Switches, 130 Ohm Ron, 16-pin SOIC (R-16), Tube; Manufacturer: Analog Devices; PartNumber: ADG1311YRZ; # Sw Functions: 4; Max Neg Supply: -16.5V; Max Pos Supply: +16.5V; Ron (ohms): 130, 325; t ON: 105ns, 120ns; DatasheetVersion: Rev. A; PackageVersion: 060606-A, 06/2006; PackageReference: R-16; PackageDescription: 16-Pin Standard Small Outline Package, Body 9.9 x 3.9 mm, Pitch 1.27 mm; Supplier 1: Digi-Key; Supplier Part Number 1: ADG1311YRZ-ND; Supplier 2: Newark; Supplier Part Number 2: 50M0773; Supplier 3: Mouser; Supplier Part Number 3: 584-ADG1311YRZ; Configuration: SPST; Packing: Tube; Mounting Technology: Surface Mount; Code_JEDEC: MS-012-AC; ComponentLink1Description: Manufacturer URL; ComponentLink1URL: http://www.analog.com/en/index.html; ComponentLink2Description: Datasheet; ComponentLink2URL: http://www.analog.com/static/imported-files/data_sheets/ADG1311_1312_1313.pdf; ComponentLink3Description: Package Specification; ComponentLink3URL: http://www.analog.com/static/imported-files/packages/PKG_PDF/SOIC_Narrow%20(R)/R_16.pdf
footprint ADI-R-16_N (SOIC, 16-Leads, Body 9.9x3.9mm, Pitch 1.27mm, IPC Medium Density)
footprint ADI-R-16_L (SOIC, 16-Leads, Body 9.9x3.9mm, Pitch 1.27mm, IPC High Density)
footprint ADI-R-16_M (SOIC, 16-Leads, Body 9.9x3.9mm, Pitch 1.27mm, IPC Low Density)
pins: 1 IN1 (in) "Logic Control Input.", 2 D1 "Drain Terminal. Can be an input or output.", 3 S1 "Source Terminal. Can be an input or output.", 4 VSS (power) "Most Negative Power Supply Potential.", 5 GND (power) "Ground (0 V) Reference.", 6 S4 "Source Terminal. Can be an input or output.", 7 D4 "Drain Terminal. Can be an input or output.", 8 IN4 (in) "Logic Control Input.", 9 IN3 (in) "Logic Control Input.", 10 D3 "Drain Terminal. Can be an input or output.", 11 S3 "Source Terminal. Can be an input or output.", 12 NC "No Connection.", 13 VDD (power) "Most Positive Power Supply Potential.", 14 S2 "Source Terminal. Can be an input or output.", 15 D2 "Drain Terminal. Can be an input or output.", 16 IN2 (in) "Logic Control Input."

## ADG1311YRZ-REEL7
designator U?
Quad SPST +/-15 V / 12 V Switches, 130 Ohm Ron, 16-pin SOIC (R-16), Reel; Manufacturer: Analog Devices; PartNumber: ADG1311YRZ-REEL7; # Sw Functions: 4; Max Neg Supply: -16.5V; Max Pos Supply: +16.5V; Ron (ohms): 130, 325; t ON: 105ns, 120ns; DatasheetVersion: Rev. A; PackageVersion: 060606-A, 06/2006; PackageReference: R-16; PackageDescription: 16-Pin Standard Small Outline Package, Body 9.9 x 3.9 mm, Pitch 1.27 mm; Supplier 1: Digi-Key; Supplier Part Number 1: ADG1311YRZ-REEL7-ND; Supplier 2: Mouser; Supplier Part Number 2: 584-ADG1311YRZ-R7; Configuration: SPST; Packing: Reel; Mounting Technology: Surface Mount; Code_JEDEC: MS-012-AC; ComponentLink1Description: Manufacturer URL; ComponentLink1URL: http://www.analog.com/en/index.html; ComponentLink2Description: Datasheet; ComponentLink2URL: http://www.analog.com/static/imported-files/data_sheets/ADG1311_1312_1313.pdf; ComponentLink3Description: Package Specification; ComponentLink3URL: http://www.analog.com/static/imported-files/packages/PKG_PDF/SOIC_Narrow%20(R)/R_16.pdf
footprint ADI-R-16_N (SOIC, 16-Leads, Body 9.9x3.9mm, Pitch 1.27mm, IPC Medium Density)
footprint ADI-R-16_L (SOIC, 16-Leads, Body 9.9x3.9mm, Pitch 1.27mm, IPC High Density)
footprint ADI-R-16_M (SOIC, 16-Leads, Body 9.9x3.9mm, Pitch 1.27mm, IPC Low Density)
pins: 1 IN1 (in) "Logic Control Input.", 2 D1 "Drain Terminal. Can be an input or output.", 3 S1 "Source Terminal. Can be an input or output.", 4 VSS (power) "Most Negative Power Supply Potential.", 5 GND (power) "Ground (0 V) Reference.", 6 S4 "Source Terminal. Can be an input or output.", 7 D4 "Drain Terminal. Can be an input or output.", 8 IN4 (in) "Logic Control Input.", 9 IN3 (in) "Logic Control Input.", 10 D3 "Drain Terminal. Can be an input or output.", 11 S3 "Source Terminal. Can be an input or output.", 12 NC "No Connection.", 13 VDD (power) "Most Positive Power Supply Potential.", 14 S2 "Source Terminal. Can be an input or output.", 15 D2 "Drain Terminal. Can be an input or output.", 16 IN2 (in) "Logic Control Input."

## ADG1312YRUZ
designator U?
Quad SPST +/-15 V / 12 V Switches, 130 Ohm Ron, 16-pin SOP (RU-16), Tube; Manufacturer: Analog Devices; PartNumber: ADG1312YRUZ; # Sw Functions: 4; Max Neg Supply: -16.5V; Max Pos Supply: +16.5V; Ron (ohms): 130, 325; t ON: 105ns, 120ns; DatasheetVersion: Rev. A; PackageVersion: Nov-02; PackageReference: RU-16; PackageDescription: 16-Pin Thin Shrink Small Outline Package, Body 5 x 4.4 mm, Pitch 0.65 mm; Supplier 1: Digi-Key; Supplier Part Number 1: ADG1312YRUZ-ND; Supplier 2: Newark; Supplier Part Number 2: 19M0666; Supplier 3: Mouser; Supplier Part Number 3: 584-ADG1312YRUZ; Configuration: SPST; Packing: Tube; Mounting Technology: Surface Mount; Code_JEDEC: MO-153AB; ComponentLink1Description: Manufacturer URL; ComponentLink1URL: http://www.analog.com/en/index.html; ComponentLink2Description: Datasheet; ComponentLink2URL: http://www.analog.com/static/imported-files/data_sheets/ADG1311_1312_1313.pdf; ComponentLink3Description: Package Specification; ComponentLink3URL: http:/www.analog.com/static/imported-files/packages/36244347913743854010197452789RU16.pdf
footprint ADI-RU-16_N (SOP, 16-Leads, Body 5x4.4mm, Pitch 0.65mm, IPC Medium Density)
footprint ADI-RU-16_L (SOP, 16-Leads, Body 5x4.4mm, Pitch 0.65mm, IPC High Density)
footprint ADI-RU-16_M (SOP, 16-Leads, Body 5x4.4mm, Pitch 0.65mm, IPC Low Density)
pins: 1 IN1 (in) "Logic Control Input.", 2 D1 "Drain Terminal. Can be an input or output.", 3 S1 "Source Terminal. Can be an input or output.", 4 VSS (power) "Most Negative Power Supply Potential.", 5 GND (power) "Ground (0 V) Reference.", 6 S4 "Source Terminal. Can be an input or output.", 7 D4 "Drain Terminal. Can be an input or output.", 8 IN4 (in) "Logic Control Input.", 9 IN3 (in) "Logic Control Input.", 10 D3 "Drain Terminal. Can be an input or output.", 11 S3 "Source Terminal. Can be an input or output.", 12 NC "No Connection.", 13 VDD (power) "Most Positive Power Supply Potential.", 14 S2 "Source Terminal. Can be an input or output.", 15 D2 "Drain Terminal. Can be an input or output.", 16 IN2 (in) "Logic Control Input."

## ADG1312YRUZ-REEL7
designator U?
Quad SPST +/-15 V / 12 V Switches, 130 Ohm Ron, 16-pin SOP (RU-16), Reel; Manufacturer: Analog Devices; PartNumber: ADG1312YRUZ-REEL7; # Sw Functions: 4; Max Neg Supply: -16.5V; Max Pos Supply: +16.5V; Ron (ohms): 130, 325; t ON: 105ns, 120ns; DatasheetVersion: Rev. A; PackageVersion: Nov-02; PackageReference: RU-16; PackageDescription: 16-Pin Thin Shrink Small Outline Package, Body 5 x 4.4 mm, Pitch 0.65 mm; Supplier 1: Digi-Key; Supplier Part Number 1: ADG1312YRUZ-REEL7TR-ND; Supplier 2: Digi-Key; Supplier Part Number 2: ADG1312YRUZ-REEL7CT-ND; Supplier 3: Digi-Key; Supplier Part Number 3: ADG1312YRUZ-REEL7DKR-ND; Supplier 4: Mouser; Supplier Part Number 4: 584-ADG1312YRUZ-R7; Configuration: SPST; Packing: Reel; Mounting Technology: Surface Mount; Code_JEDEC: MO-153AB; ComponentLink1Description: Manufacturer URL; ComponentLink1URL: http://www.analog.com/en/index.html; ComponentLink2Description: Datasheet; ComponentLink2URL: http://www.analog.com/static/imported-files/data_sheets/ADG1311_1312_1313.pdf; ComponentLink3Description: Package Specification; ComponentLink3URL: http:/www.analog.com/static/imported-files/packages/36244347913743854010197452789RU16.pdf
footprint ADI-RU-16_N (SOP, 16-Leads, Body 5x4.4mm, Pitch 0.65mm, IPC Medium Density)
footprint ADI-RU-16_L (SOP, 16-Leads, Body 5x4.4mm, Pitch 0.65mm, IPC High Density)
footprint ADI-RU-16_M (SOP, 16-Leads, Body 5x4.4mm, Pitch 0.65mm, IPC Low Density)
pins: 1 IN1 (in) "Logic Control Input.", 2 D1 "Drain Terminal. Can be an input or output.", 3 S1 "Source Terminal. Can be an input or output.", 4 VSS (power) "Most Negative Power Supply Potential.", 5 GND (power) "Ground (0 V) Reference.", 6 S4 "Source Terminal. Can be an input or output.", 7 D4 "Drain Terminal. Can be an input or output.", 8 IN4 (in) "Logic Control Input.", 9 IN3 (in) "Logic Control Input.", 10 D3 "Drain Terminal. Can be an input or output.", 11 S3 "Source Terminal. Can be an input or output.", 12 NC "No Connection.", 13 VDD (power) "Most Positive Power Supply Potential.", 14 S2 "Source Terminal. Can be an input or output.", 15 D2 "Drain Terminal. Can be an input or output.", 16 IN2 (in) "Logic Control Input."

## ADG1312YRZ
designator U?
Quad SPST +/-15 V / 12 V Switches, 130 Ohm Ron, 16-pin SOIC (R-16), Tube; Manufacturer: Analog Devices; PartNumber: ADG1312YRZ; # Sw Functions: 4; Max Neg Supply: -16.5V; Max Pos Supply: +16.5V; Ron (ohms): 130, 325; t ON: 105ns, 120ns; DatasheetVersion: Rev. A; PackageVersion: 060606-A, 06/2006; PackageReference: R-16; PackageDescription: 16-Pin Standard Small Outline Package, Body 9.9 x 3.9 mm, Pitch 1.27 mm; Supplier 1: Digi-Key; Supplier Part Number 1: ADG1312YRZ-ND; Supplier 2: Farnell; Supplier Part Number 2: 1274175; Supplier 3: Mouser; Supplier Part Number 3: 584-ADG1312YRZ; Configuration: SPST; Packing: Tube; Mounting Technology: Surface Mount; Code_JEDEC: MS-012-AC; ComponentLink1Description: Manufacturer URL; ComponentLink1URL: http://www.analog.com/en/index.html; ComponentLink2Description: Datasheet; ComponentLink2URL: http://www.analog.com/static/imported-files/data_sheets/ADG1311_1312_1313.pdf; ComponentLink3Description: Package Specification; ComponentLink3URL: http://www.analog.com/static/imported-files/packages/PKG_PDF/SOIC_Narrow%20(R)/R_16.pdf
footprint ADI-R-16_N (SOIC, 16-Leads, Body 9.9x3.9mm, Pitch 1.27mm, IPC Medium Density)
footprint ADI-R-16_L (SOIC, 16-Leads, Body 9.9x3.9mm, Pitch 1.27mm, IPC High Density)
footprint ADI-R-16_M (SOIC, 16-Leads, Body 9.9x3.9mm, Pitch 1.27mm, IPC Low Density)
pins: 1 IN1 (in) "Logic Control Input.", 2 D1 "Drain Terminal. Can be an input or output.", 3 S1 "Source Terminal. Can be an input or output.", 4 VSS (power) "Most Negative Power Supply Potential.", 5 GND (power) "Ground (0 V) Reference.", 6 S4 "Source Terminal. Can be an input or output.", 7 D4 "Drain Terminal. Can be an input or output.", 8 IN4 (in) "Logic Control Input.", 9 IN3 (in) "Logic Control Input.", 10 D3 "Drain Terminal. Can be an input or output.", 11 S3 "Source Terminal. Can be an input or output.", 12 NC "No Connection.", 13 VDD (power) "Most Positive Power Supply Potential.", 14 S2 "Source Terminal. Can be an input or output.", 15 D2 "Drain Terminal. Can be an input or output.", 16 IN2 (in) "Logic Control Input."

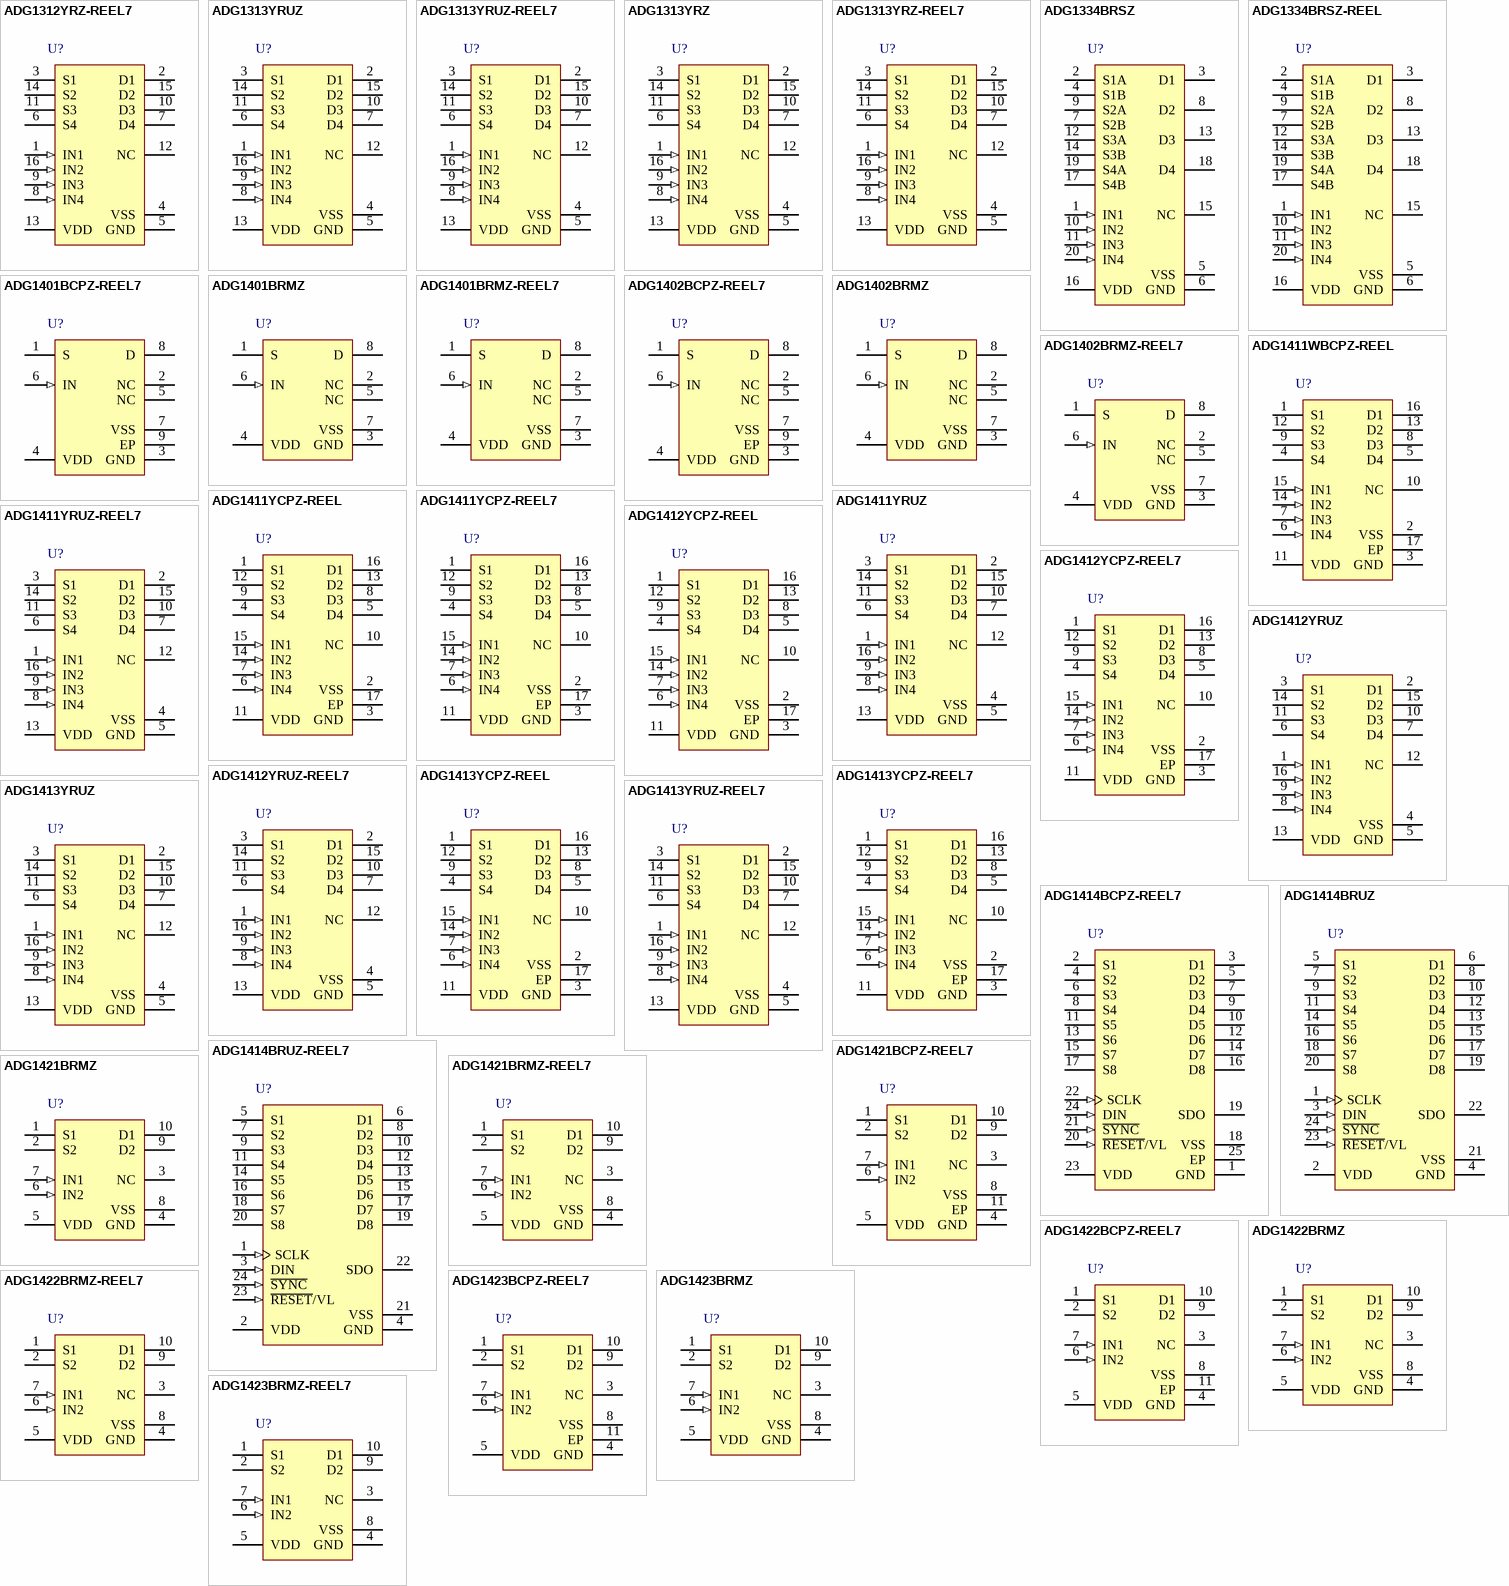
[diagram p13: symbols ADG1312YRZ-REEL7 to ADG1423BRMZ-REEL7]

## ADG1312YRZ-REEL7
designator U?
Quad SPST +/-15 V / 12 V Switches, 130 Ohm Ron, 16-pin SOIC (R-16), Reel; Manufacturer: Analog Devices; PartNumber: ADG1312YRZ-REEL7; # Sw Functions: 4; Max Neg Supply: -16.5V; Max Pos Supply: +16.5V; Ron (ohms): 130, 325; t ON: 105ns, 120ns; DatasheetVersion: Rev. A; PackageVersion: 060606-A, 06/2006; PackageReference: R-16; PackageDescription: 16-Pin Standard Small Outline Package, Body 9.9 x 3.9 mm, Pitch 1.27 mm; Supplier 1: Digi-Key; Supplier Part Number 1: ADG1312YRZ-REEL7-ND; Supplier 2: Mouser; Supplier Part Number 2: 584-ADG1312YRZ-R7; Configuration: SPST; Packing: Reel; Mounting Technology: Surface Mount; Code_JEDEC: MS-012-AC; ComponentLink1Description: Manufacturer URL; ComponentLink1URL: http://www.analog.com/en/index.html; ComponentLink2Description: Datasheet; ComponentLink2URL: http://www.analog.com/static/imported-files/data_sheets/ADG1311_1312_1313.pdf; ComponentLink3Description: Package Specification; ComponentLink3URL: http://www.analog.com/static/imported-files/packages/PKG_PDF/SOIC_Narrow%20(R)/R_16.pdf
footprint ADI-R-16_N (SOIC, 16-Leads, Body 9.9x3.9mm, Pitch 1.27mm, IPC Medium Density)
footprint ADI-R-16_L (SOIC, 16-Leads, Body 9.9x3.9mm, Pitch 1.27mm, IPC High Density)
footprint ADI-R-16_M (SOIC, 16-Leads, Body 9.9x3.9mm, Pitch 1.27mm, IPC Low Density)
pins: 1 IN1 (in) "Logic Control Input.", 2 D1 "Drain Terminal. Can be an input or output.", 3 S1 "Source Terminal. Can be an input or output.", 4 VSS (power) "Most Negative Power Supply Potential.", 5 GND (power) "Ground (0 V) Reference.", 6 S4 "Source Terminal. Can be an input or output.", 7 D4 "Drain Terminal. Can be an input or output.", 8 IN4 (in) "Logic Control Input.", 9 IN3 (in) "Logic Control Input.", 10 D3 "Drain Terminal. Can be an input or output.", 11 S3 "Source Terminal. Can be an input or output.", 12 NC "No Connection.", 13 VDD (power) "Most Positive Power Supply Potential.", 14 S2 "Source Terminal. Can be an input or output.", 15 D2 "Drain Terminal. Can be an input or output.", 16 IN2 (in) "Logic Control Input."